# Altium footprint library Personal Library (Z7V9G2@u.northwestern.edu 2).PcbLib: 21 footprints (part 2 of 2)
Each footprint in its own frame and in the unit in brackets; x right, y up, seen from the top. Pads: shape width x height; smd on the part's side, far side on the other; paste and mask are expansions set on the pad; w line width, h text height; cw(c..) or ccw(c..) is an arc to the next point about the centre after c.
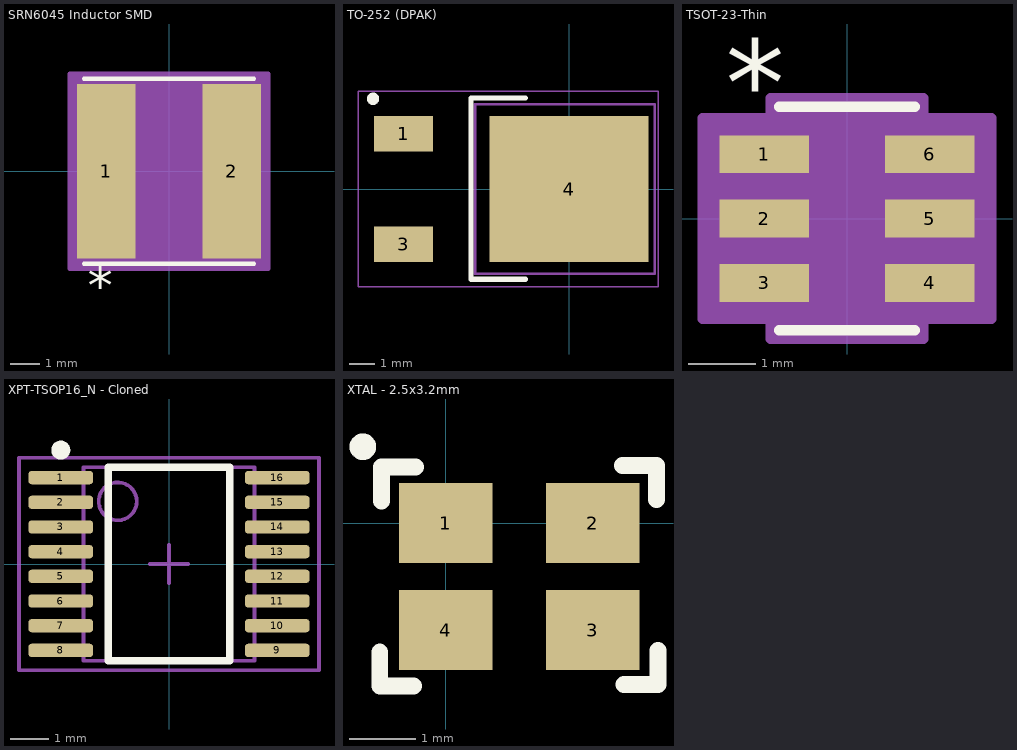
[diagram p1: the footprints below, top view; thin cyan lines are the x and y axes]

## SRN6045 Inductor SMD [mil]
height 177.17
pads (2):
  rect 79x236 smd paste+0 mask+0: 1(-85,0) 2(85,0)
Top Overlay:
  lines w6: -115,-125 115,-125 ; -115,125 115,125
  text "*" at -110,-180 h50
Mechanical 13:
  lines w1: -122,-61 -61,-122 61,-122 122,-61 122,61 61,122 -61,122 -122,61 -122,-61
  text "*" at -114.5,-50 h50
Mechanical 15:
  region: 134.5,-132 -134.5,-132 -134.5,132 134.5,132
  lines w6: -134.5,-132 134.5,-132 134.5,132 -134.5,132 -134.5,-132
3D body: height 177.17, standoff 0, extent -117.5,-115 117.5,115
3D body: height 10, standoff 0, extent 0,0 10,10

## TO-252 (DPAK) [mil] "D-PAK, 4-Leads, Body 6.1x6.5mm, Pitch 2.28mm, Lead Span 9.7mm, IPC Low Density"
height 94.49
pads (3):
  rect 90x55 smd: 1(-253.27,84.53) 3(-253.27,-84.53)
  rect 243.31x224.02 smd: 4(0,0)
Top Overlay:
  circle w9.84: c-300,138 r4.47
  lines w7.87: -66.93,-138 -150,-138 -150,139 -66.93,139
Mechanical 13:
  lines w3.94: -144,-129.92 131,-129.92 131,129.92 -144,129.92 -144,-129.92
Mechanical 15:
  lines w1.97: -323,-149.61 -323,149.61 136,149.61 136,-149.61 -323,-149.61
  lines w3.94: -19.68,0 19.69,0 ; 0,-19.68 0,19.69
3D body: height 94.49, standoff 0, extent -142,-131.92 129,127.92

## TSOT-23-Thin [mil]
height 43.31
pads (6):
  rect 52x22 smd paste+0 mask+0: 1(-48,37.4) 2(-48,0) 3(-48,-37.4) 4(48,-37.4) 5(48,0) 6(48,37.4)
Top Overlay:
  lines w6: -39.5,-65 39.5,-65 ; -39.5,65 39.5,65
  text "*" at -70.5,54.4 h50
Mechanical 13:
  lines w0: -12,60 ccw(c0,60) 12,60
  lines w1: -60,-47.4 -60,-27.4 -34.5,-27.4 -34.5,-47.4 -60,-47.4 ; -60,-10 -60,10 -34.5,10 -34.5,-10 -60,-10 ; -60,27.4 -60,47.4 -34.5,47.4 -34.5,27.4 -60,27.4 ; -34.5,-60 34.5,-60 34.5,60 -34.5,60 -34.5,-60 ; 34.5,-47.4 34.5,-27.4 60,-27.4 60,-47.4 34.5,-47.4 ; 34.5,-10 34.5,10 60,10 60,-10 34.5,-10 ; 34.5,27.4 34.5,47.4 60,47.4 60,27.4 34.5,27.4
  text "*" at -32,7 h50
Mechanical 15:
  region: -44.5,-58.4 -84,-58.4 -84,58.4 -44.5,58.4 -44.5,70 44.5,70 44.5,58.4 84,58.4 84,-58.4 44.5,-58.4 44.5,-70 -44.5,-70
  lines w6: -84,-58.4 -84,58.4 -44.5,58.4 -44.5,70 44.5,70 44.5,58.4 84,58.4 84,-58.4 44.5,-58.4 44.5,-70 -44.5,-70 -44.5,-58.4 -84,-58.4
3D body: height 10, standoff 0, extent 0,0 10,10
3D body: height 43.31, standoff 0, extent -41,-65 40,66

## XPT-TSOP16_N - Cloned [mm] "TSOP, 16-Leads, Body 5x4.4mm, Pitch 0.65mm, IPC Medium Density"
pads (16):
  rrect50% 1.7x0.35 smd: 1(-2.85,2.275) 2(-2.85,1.625) 3(-2.85,0.975) 4(-2.85,0.325) 5(-2.85,-0.325) 6(-2.85,-0.975) 7(-2.85,-1.625) 8(-2.85,-2.275) 9(2.85,-2.275) 10(2.85,-1.625) 11(2.85,-0.975) 12(2.85,-0.325) 13(2.85,0.325) 14(2.85,0.975) 15(2.85,1.625) 16(2.85,2.275)
Top Overlay:
  circle w0.25: c-2.85,3 r0.125
  lines w0.2: -1.6,-2.55 -1.6,2.55 1.6,2.55 1.6,-2.55 -1.6,-2.55
Mechanical 13:
  circle w0.1: c-1.35,1.65 r0.5
  lines w0.1: -2.25,-2.55 -2.25,2.55 2.25,2.55 2.25,-2.55 -2.25,-2.55
Mechanical 15:
  lines w0.1: -0.5,0 0.5,0 ; 0,-0.5 0,0.5 ; -3.95,-2.8 -3.95,2.8 3.95,2.8 3.95,-2.8 -3.95,-2.8
3D body: height 0.25, standoff 0.13, extent -2.603,2.184 -1.867,2.362
3D body: height 0.13, standoff 0, extent -3.226,2.184 -2.54,2.362
3D body: height 0.25, standoff 0.13, extent -2.629,1.524 -1.892,1.702
3D body: height 0.13, standoff 0, extent -3.251,1.524 -2.565,1.702
3D body: height 0.13, standoff 0, extent -3.302,-2.362 -2.616,-2.184
3D body: height 0.25, standoff 0.13, extent -2.68,-2.362 -1.943,-2.184
3D body: height 0.13, standoff 0, extent -3.277,-1.702 -2.591,-1.524
3D body: height 0.25, standoff 0.13, extent -2.654,-1.702 -1.918,-1.524
3D body: height 0.13, standoff 0, extent -3.277,-1.041 -2.591,-0.864
3D body: height 0.25, standoff 0.13, extent -2.629,-1.041 -1.892,-0.864
3D body: height 0.13, standoff 0, extent -3.251,-0.406 -2.565,-0.229
3D body: height 0.25, standoff 0.13, extent -2.629,-0.406 -1.892,-0.229
3D body: height 0.25, standoff 0.13, extent -2.629,0.203 -1.892,0.381
3D body: height 0.13, standoff 0, extent -3.251,0.203 -2.565,0.381
3D body: height 0.25, standoff 0.13, extent -2.578,0.838 -1.841,1.016
3D body: height 0.13, standoff 0, extent -3.2,0.838 -2.515,1.016
3D body: height 0.25, standoff 0.13, extent -2.603,1.473 -1.867,1.651
3D body: height 0.13, standoff 0, extent -3.226,1.473 -2.54,1.651
3D body: height 0.13, standoff 0, extent 2.607,-1.666 3.292,-1.488
3D body: height 0.25, standoff 0.13, extent 1.934,-1.666 2.67,-1.488
3D body: height 0.13, standoff 0, extent 2.581,-1.031 3.267,-0.853
3D body: height 0.25, standoff 0.13, extent 1.908,-1.031 2.645,-0.853
3D body: height 0.13, standoff 0, extent 2.632,-0.396 3.318,-0.218
3D body: height 0.25, standoff 0.13, extent 1.959,-0.396 2.696,-0.218
3D body: height 0.25, standoff 0.13, extent 1.959,0.214 2.696,0.391
3D body: height 0.13, standoff 0, extent 2.632,0.214 3.318,0.391
3D body: height 0.25, standoff 0.13, extent 1.959,0.849 2.696,1.026
3D body: height 0.13, standoff 0, extent 2.657,0.849 3.343,1.026
3D body: height 0.25, standoff 0.13, extent 1.984,1.509 2.721,1.687
3D body: height 0.13, standoff 0, extent 2.657,1.509 3.343,1.687
3D body: height 0.25, standoff 0.13, extent 2.01,2.169 2.746,2.347
3D body: height 0.13, standoff 0, extent 2.683,2.169 3.369,2.347
3D body: height 1.1, standoff 0, extent -2.037,-2.23 1.951,2.774
3D body: height 0.13, standoff 0, extent 2.632,-1.717 3.318,-1.539
3D body: height 0.25, standoff 0.13, extent 1.959,-1.717 2.696,-1.539
3D body: height 0.13, standoff 0, extent 2.607,-2.377 3.292,-2.199
3D body: height 0.25, standoff 0.13, extent 1.934,-2.377 2.67,-2.199

## XTAL - 2.5x3.2mm [mm] "4-SMD 2.5x3.2 XTAL Footprint"
height 0.75
pads (4):
  rect 1.4x1.2 smd: 1(0,0) 2(2.2,0) 3(2.2,-1.6) 4(0,-1.6)
Top Overlay:
  circle w0.254: c-1.245,1.143 r0.072
  lines w0.254: -0.991,-1.93 -0.991,-2.438 -0.483,-2.438 ; -0.965,0.33 -0.965,0.838 -0.457,0.838 ; 2.642,0.864 3.15,0.864 3.15,0.356 ; 2.667,-2.413 3.175,-2.413 3.175,-1.905
3D body: height 0.75, standoff 0, extent -0.841,-2.286 3.048,0.699